# EAGLE library part 52271-2769 (library molex)
CONNECTOR, FPC, 1.0MM, 27WAY
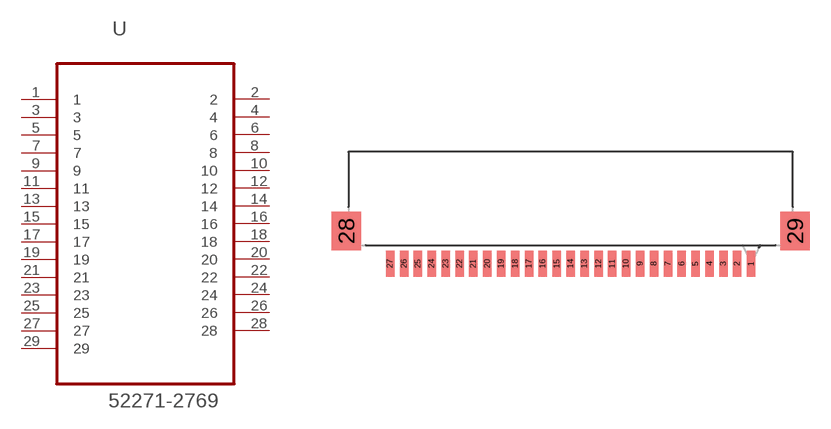
[diagram p15: symbol with the pads of MOLEX_52271-2769; footprint MOLEX_52271-2769]

Designator prefix U

## 52271-2769 (MPN: 52271-2769; OC_FARNELL: 1757094; OC_NEWARK: 34R5837; PACKAGE: CONNECTOR, FPC, 1.0MM, 27WAY; SUPPLIER: Molex)  [MOLEX_52271-2769]
1  1  pas
2  2  pas
3  3  pas
4  4  pas
5  5  pas
6  6  pas
7  7  pas
8  8  pas
9  9  pas
10  10  pas
11  11  pas
12  12  pas
13  13  pas
14  14  pas
15  15  pas
16  16  pas
17  17  pas
18  18  pas
19  19  pas
20  20  pas
21  21  pas
22  22  pas
23  23  pas
24  24  pas
25  25  pas
26  26  pas
27  27  pas
28  28  pas
29  29  pas

## Footprint MOLEX_52271-2769 (pad centres in mm)
smd 0.61 x 1.905: 1 13.005,4.699; 2 11.989,4.699; 3 10.998,4.699; 4 10.008,4.699; 5 8.992,4.699; 6 8.001,4.699; 7 7.01,4.699; 8 5.994,4.699; 9 5.004,4.699; 10 3.988,4.699; 11 2.997,4.699; 12 2.007,4.699; 13 0.991,4.699; 14 0,4.699; 15 -0.991,4.699; 16 -2.007,4.699; 17 -2.997,4.699; 18 -3.988,4.699; 19 -5.004,4.699; 20 -5.994,4.699; 21 -7.01,4.699; 22 -8.001,4.699; 23 -8.992,4.699; 24 -10.008,4.699; 25 -10.998,4.699; 26 -11.989,4.699; 27 -13.005,4.699
smd 2.108 x 2.794: 28 -16.154,7.061; 29 16.154,7.061